# EAGLE library part HEADER_POS20_? (library con-molex-micro-fit-3_0)
Molex - Micro-Fit 3.0 Series connector, 3.00mm (0.118") pitch header, 20 positions.
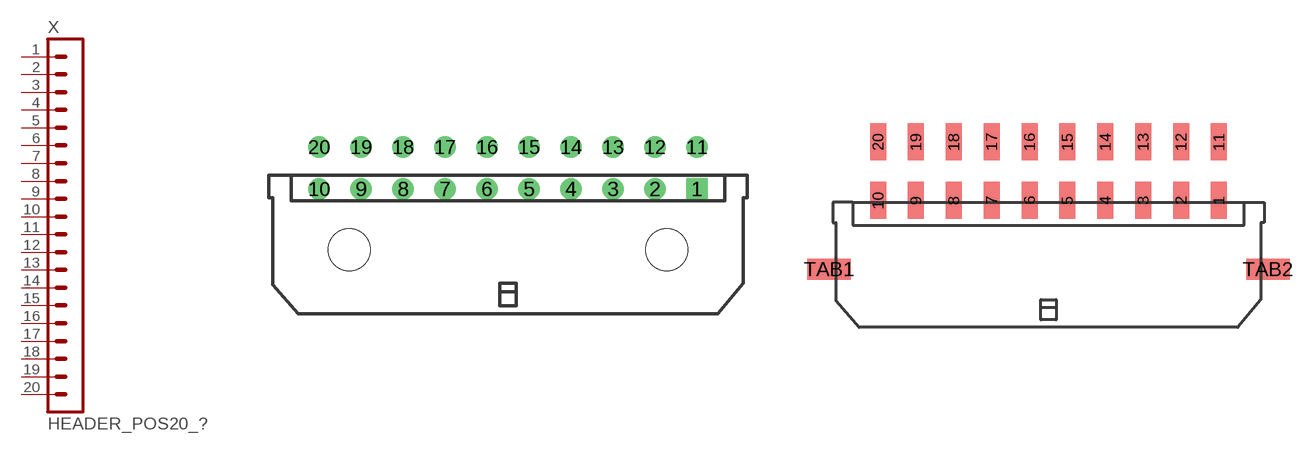
[diagram p10: symbol with the pads of 43045-2000; footprints 43045-2000, 43045-2009]

Designator prefix X

## HEADER_POS20_43045-2000  [43045-2000]
1  1  pas
2  2  pas
3  3  pas
4  4  pas
5  5  pas
6  6  pas
7  7  pas
8  8  pas
9  9  pas
10  10  pas
11  11  pas
12  12  pas
13  13  pas
14  14  pas
15  15  pas
16  16  pas
17  17  pas
18  18  pas
19  19  pas
20  20  pas

## HEADER_POS20_43045-2009  [43045-2009]
Pads as for 43045-2000

## HEADER_POS20_43045-2006  [43045-2006]
Pads as for 43045-2000

## HEADER_POS20_43045-2012  [43045-2012]
Pads as for 43045-2000

## HEADER_POS20_43045-2015  [43045-2015]
Pads as for 43045-2000

## HEADER_POS20_43045-2018  [43045-2018]
Pads as for 43045-2000

## HEADER_POS20_44914-2001  [44914-2001]
Pads as for 43045-2000

## HEADER_POS20_44769-2001  [44769-2001]
Pads as for 43045-2000

## HEADER_POS20_44432-2001  [44432-2001]
Pads as for 43045-2000

## HEADER_POS20_44428-2001  [44428-2001]
Pads as for 43045-2000

## HEADER_POS20_44764-2001  [44764-2001]
Pads as for 43045-2000

## Footprint 43045-2000 (pad centres in mm)
Molex Micro-Fit 3.0 - Header Shrouded, Thru hole, Right Angle; P/N: SD-43045-2000, SD-43045-2001, SD-43045-2002 http://www.molex.com/pdm_docs/sd/430450200_sd.pdf
drill 1.02 square: 1 13.5,4.32
drill 1.02: 2 10.5,4.32; 3 7.5,4.32; 4 4.5,4.32; 5 1.5,4.32; 6 -1.5,4.32; 7 -4.5,4.32; 8 -7.5,4.32; 9 -10.5,4.32; 10 -13.5,4.32; 11 13.5,7.32; 12 10.5,7.32; 13 7.5,7.32; 14 4.5,7.32; 15 1.5,7.32; 16 -1.5,7.32; 17 -4.5,7.32; 18 -7.5,7.32; 19 -10.5,7.32; 20 -13.5,7.32
hole 3 at 11.35,0
hole 3 at -11.35,0

## Footprint 43045-2009 (pad centres in mm)
Molex Micro-Fit 3.0 - Header Shrouded, Surface mount, Right Angle, Solderable tabs; P/N: SD-43045-2009, SD-43045-2010, SD-43045-2011 http://www.molex.com/pdm_docs/sd/430450209_sd.pdf
smd 1.27 x 2.92: 1 13.5,5.47; 2 10.5,5.47; 3 7.5,5.47; 4 4.5,5.47; 5 1.5,5.47; 6 -1.5,5.47; 7 -4.5,5.47; 8 -7.5,5.47; 9 -10.5,5.47; 10 -13.5,5.47; 11 13.5,10.1; 12 10.5,10.1; 13 7.5,10.1; 14 4.5,10.1; 15 1.5,10.1; 16 -1.5,10.1; 17 -4.5,10.1; 18 -7.5,10.1; 19 -10.5,10.1; 20 -13.5,10.1
smd 3.43 x 1.65: TAB1 -17.38,0; TAB2 17.38,0

## Footprint 43045-2006 (pad centres in mm)
Molex Micro-Fit 3.0 - Header Shrouded, Surface mount, Right Angle, Solderable Retention clips; P/N: SD-43045-2006, SD-43045-2007, SD-43045-2008 http://www.molex.com/pdm_docs/sd/430450206_sd.pdf
smd 1.27 x 2.92: 1 13.5,5.47; 2 10.5,5.47; 3 7.5,5.47; 4 4.5,5.47; 5 1.5,5.47; 6 -1.5,5.47; 7 -4.5,5.47; 8 -7.5,5.47; 9 -10.5,5.47; 10 -13.5,5.47; 11 13.5,10.1; 12 10.5,10.1; 13 7.5,10.1; 14 4.5,10.1; 15 1.5,10.1; 16 -1.5,10.1; 17 -4.5,10.1; 18 -7.5,10.1; 19 -10.5,10.1; 20 -13.5,10.1
hole 2.41 at -15.65,0
hole 2.41 at 15.65,0

## Footprint 43045-2012 (pad centres in mm)
Molex Micro-Fit 3.0 - Header Shrouded, Thru hole, Vertical, with Pegs; P/N: SD-43045-2012, SD-43045-2013, SD-43045-2014 http://www.molex.com/pdm_docs/sd/430450212_sd.pdf
drill 1.02 square: 1 13.5,0
drill 1.02: 2 10.5,0; 3 7.5,0; 4 4.5,0; 5 1.5,0; 6 -1.5,0; 7 -4.5,0; 8 -7.5,0; 9 -10.5,0; 10 -13.5,0; 11 13.5,3; 12 10.5,3; 13 7.5,3; 14 4.5,3; 15 1.5,3; 16 -1.5,3; 17 -4.5,3; 18 -7.5,3; 19 -10.5,3; 20 -13.5,3
hole 1.02 at 16.5,3.94
hole 1.02 at -16.5,3.94

## Footprint 43045-2015 (pad centres in mm)
Molex Micro-Fit 3.0 - Header Shrouded, Surface mount, Vertical, with Solderable Retention Clips; P/N: SD-43045-2015, SD-43045-2016, SD-43045-2017 http://www.molex.com/pdm_docs/sd/430450215_sd.pdf
smd 1.27 x 2.54: 1 13.5,-4.7; 2 10.5,-4.7; 3 7.5,-4.7; 4 4.5,-4.7; 5 1.5,-4.7; 6 -1.5,-4.7; 7 -4.5,-4.7; 8 -7.5,-4.7; 9 -10.5,-4.7; 10 -13.5,-4.7; 11 13.5,4.7; 12 10.5,4.7; 13 7.5,4.7; 14 4.5,4.7; 15 1.5,4.7; 16 -1.5,4.7; 17 -4.5,4.7; 18 -7.5,4.7; 19 -10.5,4.7; 20 -13.5,4.7
hole 2.41 at -15.65,0
hole 2.41 at 15.65,0

## Footprint 43045-2018 (pad centres in mm)
Molex Micro-Fit 3.0 - Header Shrouded, Surface mount, Vertical, with Solder Tabs; P/N: SD-43045-2018, SD-43045-2019, SD-43045-2020 http://www.molex.com/pdm_docs/sd/430450218_sd.pdf
smd 1.27 x 2.54: 1 13.5,-4.7; 2 10.5,-4.7; 3 7.5,-4.7; 4 4.5,-4.7; 5 1.5,-4.7; 6 -1.5,-4.7; 7 -4.5,-4.7; 8 -7.5,-4.7; 9 -10.5,-4.7; 10 -13.5,-4.7; 11 13.5,4.7; 12 10.5,4.7; 13 7.5,4.7; 14 4.5,4.7; 15 1.5,4.7; 16 -1.5,4.7; 17 -4.5,4.7; 18 -7.5,4.7; 19 -10.5,4.7; 20 -13.5,4.7
smd 3.43 x 1.65: CLIP1 -17.38,0; CLIP2 17.38,0

## Footprint 44914-2001 (pad centres in mm)
Molex Micro-Fit 3.0 - Header Shrouded, Thru hole, Vertical, Press-fit, with Pegs; P/N: SD-44914-2001, SD-44914-2002, SD-44914-2003 http://www.molex.com/pdm_docs/sd/449140201_sd.pdf
drill 1.09 square: 1 13.5,0
drill 1.09: 2 10.5,0; 3 7.5,0; 4 4.5,0; 5 1.5,0; 6 -1.5,0; 7 -4.5,0; 8 -7.5,0; 9 -10.5,0; 10 -13.5,0; 11 13.5,3; 12 10.5,3; 13 7.5,3; 14 4.5,3; 15 1.5,3; 16 -1.5,3; 17 -4.5,3; 18 -7.5,3; 19 -10.5,3; 20 -13.5,3
hole 1.02 at 16.5,3.94
hole 1.02 at -16.5,3.94

## Footprint 44769-2001 (pad centres in mm)
Molex Micro-Fit 3.0 - Board-to-Board BMI (Blind Mate Interface), Receptacle Vertical, Thru hole; P/N: SD-44769-2001, SD-44769-2002, SD-44769-2003 http://www.molex.com/pdm_docs/sd/447690401_sd.pdf
drill 1.02 square: 1 -13.5,0
drill 1.02: 2 -10.5,0; 3 -7.5,0; 4 -4.5,0; 5 -1.5,0; 6 1.5,0; 7 4.5,0; 8 7.5,0; 9 10.5,0; 10 13.5,0; 11 -13.5,3; 12 -10.5,3; 13 -7.5,3; 14 -4.5,3; 15 -1.5,3; 16 1.5,3; 17 4.5,3; 18 7.5,3; 19 10.5,3; 20 13.5,3
hole 2.36 at 16.5,3
hole 2.36 at -16.5,3

## Footprint 44432-2001 (pad centres in mm)
Molex Micro-Fit 3.0 - Board-to-Board BMI (Blind Mate Interface), Header Vertical, Thru hole, with Pegs; P/N: SD-44432-2001, SD-44432-2002, SD-44432-2003 http://www.molex.com/pdm_docs/sd/444320401_sd.pdf
drill 1.02 square: 1 13.5,-3
drill 1.02: 2 10.5,-3; 3 7.5,-3; 4 4.5,-3; 5 1.5,-3; 6 -1.5,-3; 7 -4.5,-3; 8 -7.5,-3; 9 -10.5,-3; 10 -13.5,-3; 11 13.5,0; 12 10.5,0; 13 7.5,0; 14 4.5,0; 15 1.5,0; 16 -1.5,0; 17 -4.5,0; 18 -7.5,0; 19 -10.5,0; 20 -13.5,0
hole 1.57 at -18,1.45
hole 1.57 at 18,1.45

## Footprint 44428-2001 (pad centres in mm)
Molex Micro-Fit 3.0 - Board-to-Board BMI (Blind Mate Interface), Header Right Angle, Thru hole, with Pegs; P/N: SD-44428-2001, SD-44428-2002, SD-44428-2003 http://www.molex.com/pdm_docs/sd/444280401_sd.pdf
drill 1.02 square: 1 13.5,0
drill 1.02: 2 10.5,0; 3 7.5,0; 4 4.5,0; 5 1.5,0; 6 -1.5,0; 7 -4.5,0; 8 -7.5,0; 9 -10.5,0; 10 -13.5,0; 11 13.5,3; 12 10.5,3; 13 7.5,3; 14 4.5,3; 15 1.5,3; 16 -1.5,3; 17 -4.5,3; 18 -7.5,3; 19 -10.5,3; 20 -13.5,3
hole 3 at 11.34,-8.53
hole 3 at -11.34,-8.53

## Footprint 44764-2001 (pad centres in mm)
Molex Micro-Fit 3.0 - Board-to-Board BMI (Blind Mate Interface), Receptacle, Right Angle, Thru hole; P/N: SD-44764-2001, SD-44764-2002, SD-44764-2003 http://www.molex.com/pdm_docs/sd/447640401_sd.pdf
drill 1.02 square: 1 -13.5,0
drill 1.02: 2 -10.5,0; 3 -7.5,0; 4 -4.5,0; 5 -1.5,0; 6 1.5,0; 7 4.5,0; 8 7.5,0; 9 10.5,0; 10 13.5,0; 11 -13.5,3; 12 -10.5,3; 13 -7.5,3; 14 -4.5,3; 15 -1.5,3; 16 1.5,3; 17 4.5,3; 18 7.5,3; 19 10.5,3; 20 13.5,3
hole 2.36 at -12,-3.05
hole 2.36 at 12,-3.05